# Altium schematic symbol library MCU_Microchip_AVR_Dx.SchLib: 50 symbols (part 2 of 2)
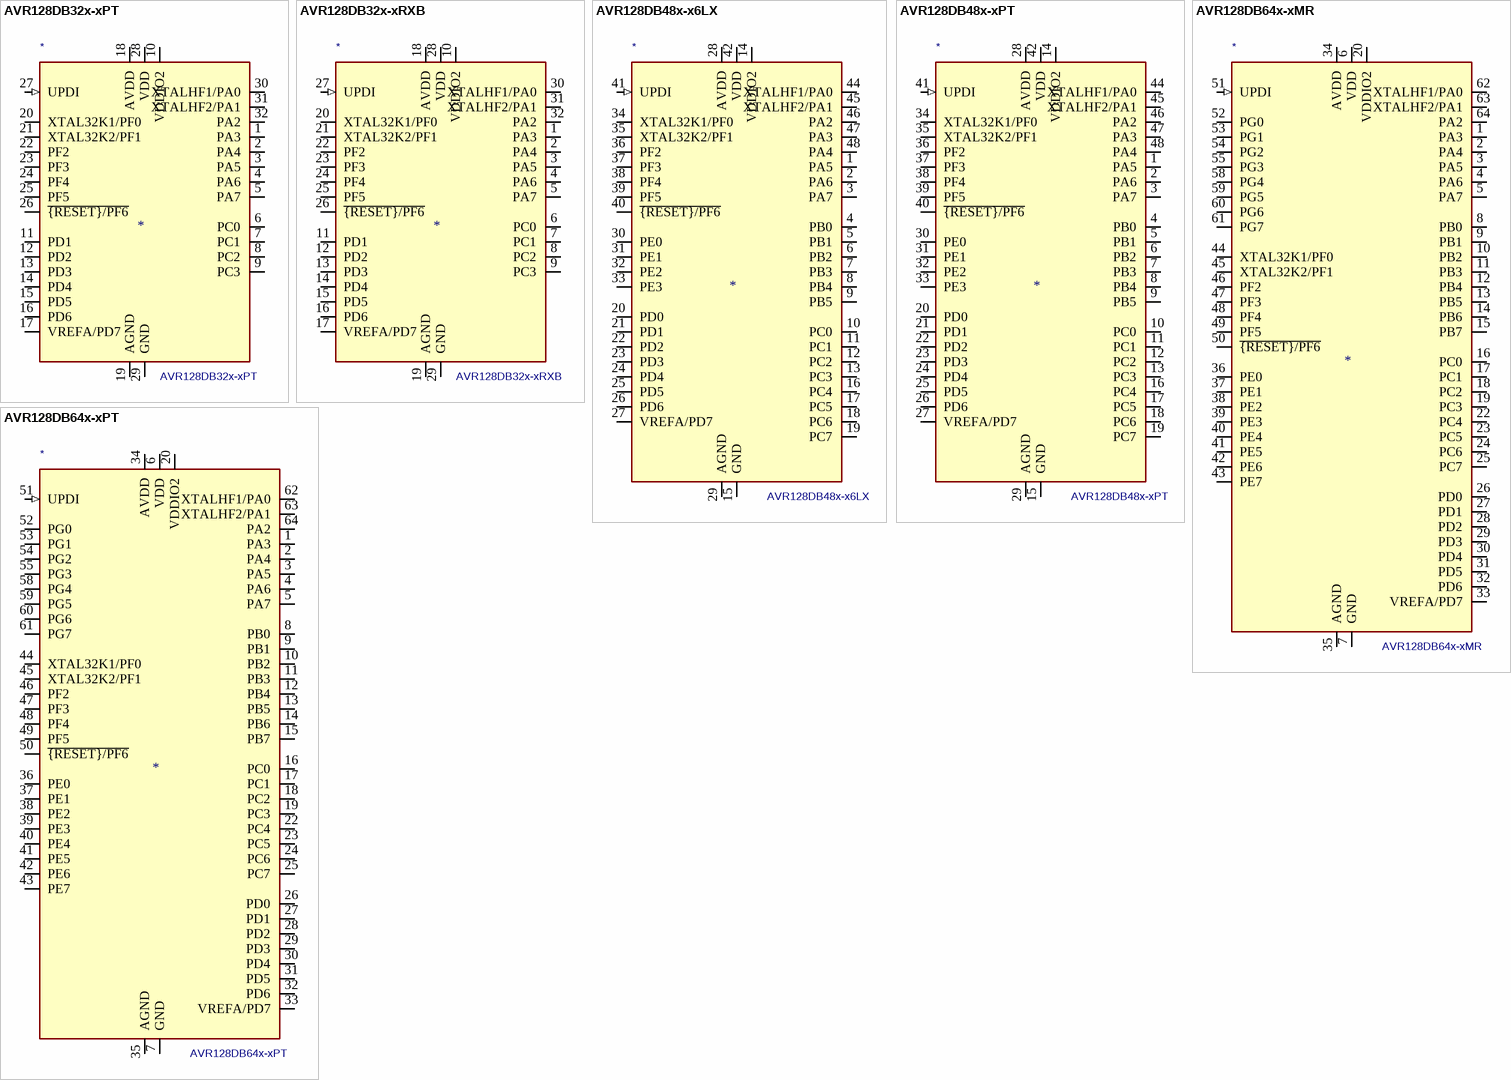
[diagram p4: symbols AVR128DB32x-xPT to AVR128DB64x-xPT]

## AVR128DB64x-xPT
designator *  value AVR128DB64x-xPT
ki_keywords: AVR 8bit Microcontroller AVR-DB; ki_description: 24MHz, 128kB Flash, 16kB SRAM, EEPROM with Op Amps and Multi-Voltage I/O, TQFP-64; ki_fp_filters: TQFP*10x10mm*P0.5mm*; Footprint: Package_QFP:TQFP-64_10x10mm_P0.5mm; Supplier: https://ww1.microchip.com/downloads/en/DeviceDoc/AVR128DB28-32-48-64-DataSheet-DS40002247A.pdf
footprint TQFP-64_10x10mm_P0.5mm
pins: 1 PA3 (io), 2 PA4 (io), 3 PA5 (io), 4 PA6 (io), 5 PA7 (io), 6 VDD (power), 7 GND (power), 8 PB0 (io), 9 PB1 (io), 10 PB2 (io), 11 PB3 (io), 12 PB4 (io), 13 PB5 (io), 14 PB6 (io), 15 PB7 (io), 16 PC0 (io), 17 PC1 (io), 18 PC2 (io), 19 PC3 (io), 20 VDDIO2 (power), 21 GND hidden, 22 PC4 (io), 23 PC5 (io), 24 PC6 (io), 25 PC7 (io), 26 PD0 (io), 27 PD1 (io), 28 PD2 (io), 29 PD3 (io), 30 PD4 (io), 31 PD5 (io), 32 PD6 (io), 33 VREFA/PD7 (io), 34 AVDD (power), 35 AGND (power), 36 PE0 (io), 37 PE1 (io), 38 PE2 (io), 39 PE3 (io), 40 PE4 (io), 41 PE5 (io), 42 PE6 (io), 43 PE7 (io), 44 XTAL32K1/PF0 (io), 45 XTAL32K2/PF1 (io), 46 PF2 (io), 47 PF3 (io), 48 PF4 (io), 49 PF5 (io), 50 ~{{RESET}/PF6} (io), 51 UPDI (in), 52 PG0 (io), 53 PG1 (io), 54 PG2 (io), 55 PG3 (io), 56 VDD hidden, 57 GND hidden, 58 PG4 (io), 59 PG5 (io), 60 PG6 (io), 61 PG7 (io), 62 XTALHF1/PA0 (io), 63 XTALHF2/PA1 (io), 64 PA2 (io)